# EAGLE library part BALUN+LP_NORDIC (library microbuilder)
Balun + Low Pass Filter 0603 Johanson 2450BM14A0002 (nRF8001) - 2400-2500 MHz Balun + Filter
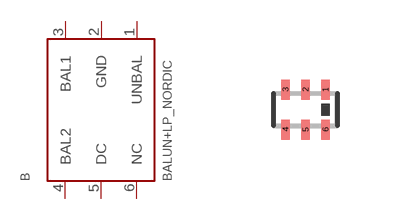
[diagram p211: symbol with the pads of BALUN0603; footprint BALUN0603]

Designator prefix B

## BALUN+LP_NORDIC  [BALUN0603]
1  UNBAL
2  GND  sup
3  BAL1
4  BAL2
5  DC
6  NC  nc

## Footprint BALUN0603 (pad centres in mm)
smd 0.2 x 0.5: 1 0.5,0.5; 2 0,0.5; 3 -0.5,0.5; 4 -0.5,-0.5; 5 0,-0.5; 6 0.5,-0.5